# Altium schematic symbol library 12GA Power Input.SchLib: 1 symbol
Pins are listed as number, name and electrical type; pins without a type are passive.

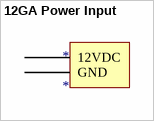
[diagram p0: symbol 12GA Power Input]

## 12GA Power Input
designator *
footprint Power_Input
pins: 1 12VDC, 2 GND